# Altium integrated library Capacitors$.IntLib: 127 symbols
Pins are listed as number, name and electrical type; pins without a type are passive.

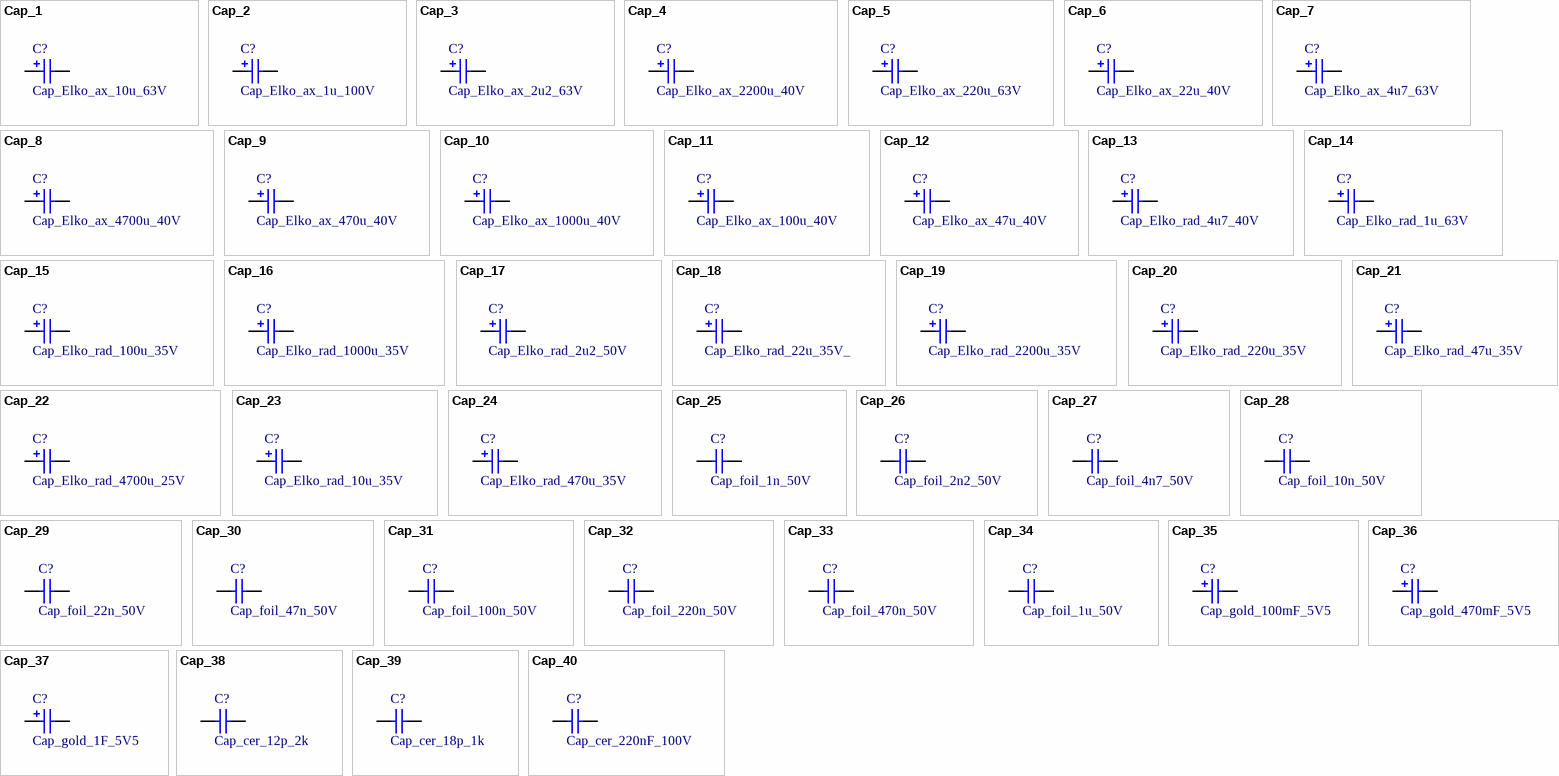
[diagram p0: symbols Cap_1 to Cap_40]

## Cap_1
designator C?, comment Cap_Elko_ax_10u_63V
RS_number: 324-5234; QR: 1; ax_rad: ax; Capacity: 10u; Voltage: 63V; UID: Cap_1; Name: Cap_Elko_ax_10u_63V; Name_Hyperlink: Al-Elko 10uF 63VDC 20% 85C axial; ComponentLink1URL: #NAME?; mounting: THT
footprint Cap_THT_Elko_ax_L11mm
pins: 1, 2
1 alternate drawing of the same symbol

## Cap_2
designator C?, comment Cap_Elko_ax_1u_100V
RS_number: 324-5313; QR: 1; ax_rad: ax; Capacity: 1u; Voltage: 100V; UID: Cap_2; Name: Cap_Elko_ax_1u_100V; Name_Hyperlink: Al-Elko 1uF 100VDC 20% 85C axial; ComponentLink1URL: #NAME?; mounting: THT
footprint Cap_THT_Elko_ax_L11mm
pins: 1, 2
1 alternate drawing of the same symbol

## Cap_3
designator C?, comment Cap_Elko_ax_2u2_63V
RS_number: 108-5440; QR: 1; ax_rad: ax; Capacity: 2u2; Voltage: 63V; UID: Cap_3; Name: Cap_Elko_ax_2u2_63V; Name_Hyperlink: Al-Elko 2,2uF 63VDC -10% +50% 85C axial; ComponentLink1URL: #NAME?; mounting: THT
footprint Cap_THT_Elko_ax_L11mm
pins: 1, 2
1 alternate drawing of the same symbol

## Cap_4
designator C?, comment Cap_Elko_ax_2200u_40V
RS_number: 108-4992; QR: 1; ax_rad: ax; Capacity: 2200u; Voltage: 40V; UID: Cap_4; Name: Cap_Elko_ax_2200u_40V; Name_Hyperlink: Al-Elko 2200uF 40VDC 20% 85C axial; ComponentLink1URL: #NAME?; mounting: THT
footprint Cap_THT_Elko_ax_L31mm
pins: 1, 2
1 alternate drawing of the same symbol

## Cap_5
designator C?, comment Cap_Elko_ax_220u_63V
RS_number: 324-5278; QR: 1; ax_rad: ax; Capacity: 220u; Voltage: 63V; UID: Cap_5; Name: Cap_Elko_ax_220u_63V; Name_Hyperlink: Al-Elko 220uF 63VDC 20% 85C axial; ComponentLink1URL: #NAME?; mounting: THT
footprint Cap_THT_Elko_ax_L31mm
pins: 1, 2
1 alternate drawing of the same symbol

## Cap_6
designator C?, comment Cap_Elko_ax_22u_40V
RS_number: 108-5333; QR: 1; ax_rad: ax; Capacity: 22u; Voltage: 40V; UID: Cap_6; Name: Cap_Elko_ax_22u_40V; Name_Hyperlink: Al-Elko 22uF 40VDC -10% +50% 85C axial; ComponentLink1URL: #NAME?; mounting: THT
footprint Cap_THT_Elko_ax_L11mm
pins: 1, 2
1 alternate drawing of the same symbol

## Cap_7
designator C?, comment Cap_Elko_ax_4u7_63V
RS_number: 108-5456; QR: 1; ax_rad: ax; Capacity: 4u7; Voltage: 63V; UID: Cap_7; Name: Cap_Elko_ax_4u7_63V; Name_Hyperlink: Al-Elko 4,7uF 63VDC -10% +50% 85C axial; ComponentLink1URL: #NAME?; mounting: THT
footprint Cap_THT_Elko_ax_L11mm
pins: 1, 2
1 alternate drawing of the same symbol

## Cap_8
designator C?, comment Cap_Elko_ax_4700u_40V
RS_number: 108-5002; QR: 1; ax_rad: ax; Capacity: 4700u; Voltage: 40V; UID: Cap_8; Name: Cap_Elko_ax_4700u_40V; Name_Hyperlink: Al-Elko 4700uF 40VDC 20% 85C axial; ComponentLink1URL: #NAME?; mounting: THT
footprint Cap_THT_Elko_ax_L39mm
pins: 1, 2
1 alternate drawing of the same symbol

## Cap_9
designator C?, comment Cap_Elko_ax_470u_40V
RS_number: 108-4970; QR: 1; ax_rad: ax; Capacity: 470u; Voltage: 40V; UID: Cap_9; Name: Cap_Elko_ax_470u_40V; Name_Hyperlink: Al-Elko 470uF 40VDC 20% 85C axial; ComponentLink1URL: #NAME?; mounting: THT
footprint Cap_THT_Elko_ax_L31mm
pins: 1, 2
1 alternate drawing of the same symbol

## Cap_10
designator C?, comment Cap_Elko_ax_1000u_40V
RS_number: 108-4986; QR: 1; ax_rad: ax; Capacity: 1000u; Voltage: 40V; UID: Cap_10; Name: Cap_Elko_ax_1000u_40V; Name_Hyperlink: Aluminium Elko 40VDC 1000µF; ComponentLink1URL: #NAME?; mounting: THT
footprint Cap_THT_Elko_ax_L31mm
pins: 1, 2
1 alternate drawing of the same symbol

## Cap_11
designator C?, comment Cap_Elko_ax_100u_40V
RS_number: 108-5383; QR: 1; ax_rad: ax; Capacity: 100u; Voltage: 40V; UID: Cap_11; Name: Cap_Elko_ax_100u_40V; Name_Hyperlink: Miniatur Elko 40V 85°C 100µF; ComponentLink1URL: #NAME?; mounting: THT
footprint Cap_THT_Elko_ax_L19mm
pins: 1, 2
1 alternate drawing of the same symbol

## Cap_12
designator C?, comment Cap_Elko_ax_47u_40V
RS_number: 108-5377; QR: 1; ax_rad: ax; Capacity: 47u; Voltage: 40V; UID: Cap_12; Name: Cap_Elko_ax_47u_40V; Name_Hyperlink: Miniatur Elko 40V 85°C 47µF; ComponentLink1URL: #NAME?; mounting: THT
footprint Cap_THT_Elko_ax_L19mm
pins: 1, 2
1 alternate drawing of the same symbol

## Cap_13
designator C?, comment Cap_Elko_rad_4u7_40V
RS_number: 547-2961; QR: 1; ax_rad: rad; Capacity: 4u7; Voltage: 35V; UID: Cap_13; Name: Cap_Elko_rad_4u7_40V; Name_Hyperlink: Electrolytkondensator 4,7µF 35V; ComponentLink1URL: #NAME?; mounting: THT
footprint Cap_THT_Elko_rad_D5mm
pins: 1, 2
1 alternate drawing of the same symbol

## Cap_14
designator C?, comment Cap_Elko_rad_1u_63V
RS_number: 547-2882; QR: 1; ax_rad: rad; Capacity: 1u; Voltage: 63V; UID: Cap_14; Name: Cap_Elko_rad_1u_63V; Name_Hyperlink: Elektrolytkondensator SRA 63V 1µF; ComponentLink1URL: #NAME?; mounting: THT
footprint Cap_THT_Elko_rad_D5mm
pins: 1, 2
1 alternate drawing of the same symbol

## Cap_15
designator C?, comment Cap_Elko_rad_100u_35V
RS_number: 228-6767; QR: 1; ax_rad: rad; Capacity: 100u; Voltage: 35V; UID: Cap_15; Name: Cap_Elko_rad_100u_35V; Name_Hyperlink: Elko 100µF 35VDC; ComponentLink1URL: #NAME?; mounting: THT
footprint Cap_THT_Elko_rad_D8mm
pins: 1, 2
1 alternate drawing of the same symbol

## Cap_16
designator C?, comment Cap_Elko_rad_1000u_35V
RS_number: 228-6818; QR: 1; ax_rad: rad; Capacity: 1000u; Voltage: 35V; UID: Cap_16; Name: Cap_Elko_rad_1000u_35V; Name_Hyperlink: Elko 1000µF 35VDC; ComponentLink1URL: #NAME?; mounting: THT
footprint Cap_THT_Elko_rad_D13mm
pins: 1, 2
1 alternate drawing of the same symbol

## Cap_17
designator C?, comment Cap_Elko_rad_2u2_50V
RS_number: 228-6852; QR: 1; ax_rad: rad; Capacity: 2u2; Voltage: 50V; UID: Cap_17; Name: Cap_Elko_rad_2u2_50V; Name_Hyperlink: Elko 2,2µF 50VDC; ComponentLink1URL: #NAME?; mounting: THT
footprint Cap_THT_Elko_rad_D5mm
pins: 1, 2
1 alternate drawing of the same symbol

## Cap_18
designator C?, comment Cap_Elko_rad_22u_35V_
RS_number: 228-6723; QR: 1; ax_rad: rad; Capacity: 22u; Voltage: 35V; UID: Cap_18; Name: Cap_Elko_rad_22u_35V_; Name_Hyperlink: Elko 22µF 35VDC; ComponentLink1URL: #NAME?; mounting: THT
footprint Cap_THT_Elko_rad_D6mm
pins: 1, 2
1 alternate drawing of the same symbol

## Cap_19
designator C?, comment Cap_Elko_rad_2200u_35V
RS_number: 228-6824; QR: 1; ax_rad: rad; Capacity: 2200u; Voltage: 35V; UID: Cap_19; Name: Cap_Elko_rad_2200u_35V; Name_Hyperlink: Elko 2200µF 35VDC; ComponentLink1URL: #NAME?; mounting: THT
footprint Cap_THT_Elko_rad_D16mm
pins: 1, 2
1 alternate drawing of the same symbol

## Cap_20
designator C?, comment Cap_Elko_rad_220u_35V
RS_number: 440-6632; QR: 1; ax_rad: rad; Capacity: 220u; Voltage: 35V; UID: Cap_20; Name: Cap_Elko_rad_220u_35V; Name_Hyperlink: Kondensator 220µF 35V; ComponentLink1URL: #NAME?; mounting: THT
footprint Cap_THT_Elko_rad_D8mm
pins: 1, 2
1 alternate drawing of the same symbol

## Cap_21
designator C?, comment Cap_Elko_rad_47u_35V
RS_number: 228-6751; QR: 1; ax_rad: rad; Capacity: 47u; Voltage: 35V; UID: Cap_21; Name: Cap_Elko_rad_47u_35V; Name_Hyperlink: Elko 47µF 35VDC; ComponentLink1URL: #NAME?; mounting: THT
footprint Cap_THT_Elko_rad_D6mm
pins: 1, 2
1 alternate drawing of the same symbol

## Cap_22
designator C?, comment Cap_Elko_rad_4700u_25V
RS_number: 208-7144; QR: 1; ax_rad: rad; Capacity: 4700u; Voltage: 25V; UID: Cap_22; Name: Cap_Elko_rad_4700u_25V; Name_Hyperlink: Elko Kondensator 4700µF 25V; ComponentLink1URL: #NAME?; mounting: THT
footprint Cap_THT_Elko_rad_D25mm
pins: 1, 2
1 alternate drawing of the same symbol

## Cap_23
designator C?, comment Cap_Elko_rad_10u_35V
RS_number: 547-2927; QR: 1; ax_rad: rad; Capacity: 10u; Voltage: 35V; UID: Cap_23; Name: Cap_Elko_rad_10u_35V; Name_Hyperlink: Elko Subminiatur 35Vdc 10uF; ComponentLink1URL: #NAME?; mounting: THT
footprint Cap_THT_Elko_rad_D6mm
pins: 1, 2
1 alternate drawing of the same symbol

## Cap_24
designator C?, comment Cap_Elko_rad_470u_35V
RS_number: 440-6452; QR: 1; ax_rad: rad; Capacity: 470u; Voltage: 35V; UID: Cap_24; Name: Cap_Elko_rad_470u_35V; Name_Hyperlink: Kondensator 470µF 35V; ComponentLink1URL: #NAME?; mounting: THT
footprint Cap_THT_Elko_rad_D10mm
pins: 1, 2
1 alternate drawing of the same symbol

## Cap_25
designator C?, comment Cap_foil_1n_50V
RS_number: 622-4117; QR: 1; Capacity: 1n; Voltage: 50V; UID: Cap_25; Name: Cap_foil_1n_50V; Name_Hyperlink: Film Kondensator 50VDC 0,001µF 5%; ComponentLink1URL: #NAME?; mounting: THT
footprint Cap_THT_cer_508mm
pins: 1, 2

## Cap_26
designator C?, comment Cap_foil_2n2_50V
RS_number: 622-4101; QR: 1; Capacity: 2n2; Voltage: 50V; UID: Cap_26; Name: Cap_foil_2n2_50V; Name_Hyperlink: Film Kondensator 50VDC 0,0022µF 5%; ComponentLink1URL: #NAME?; mounting: THT
footprint Cap_THT_cer_508mm
pins: 1, 2

## Cap_27
designator C?, comment Cap_foil_4n7_50V
RS_number: 622-4123; QR: 1; Capacity: 4n7; Voltage: 50V; UID: Cap_27; Name: Cap_foil_4n7_50V; Name_Hyperlink: Film Kondensator 50VDC 0,0047µF 5%; ComponentLink1URL: #NAME?; mounting: THT
footprint Cap_THT_cer_508mm
pins: 1, 2

## Cap_28
designator C?, comment Cap_foil_10n_50V
RS_number: 622-4151; QR: 1; Capacity: 10n; Voltage: 50V; UID: Cap_28; Name: Cap_foil_10n_50V; Name_Hyperlink: Film Kondensator 50VDC 0,01µF 5%; ComponentLink1URL: #NAME?; mounting: THT
footprint Cap_THT_cer_254mm
pins: 1, 2

## Cap_29
designator C?, comment Cap_foil_22n_50V
RS_number: 622-4167; QR: 1; Capacity: 22n; Voltage: 50V; UID: Cap_29; Name: Cap_foil_22n_50V; Name_Hyperlink: Film Kondensator 50VDC 0,022µF 5%; ComponentLink1URL: #NAME?; mounting: THT
footprint Cap_THT_cer_508mm
pins: 1, 2

## Cap_30
designator C?, comment Cap_foil_47n_50V
RS_number: 622-4195; QR: 1; Capacity: 47n; Voltage: 50V; UID: Cap_30; Name: Cap_foil_47n_50V; Name_Hyperlink: Film Kondensator 50VDC 0,047ÁF; ComponentLink1URL: #NAME?; mounting: THT
footprint Cap_THT_cer_508mm
pins: 1, 2

## Cap_31
designator C?, comment Cap_foil_100n_50V
RS_number: 622-4202; QR: 1; Capacity: 100n; Voltage: 50V; UID: Cap_31; Name: Cap_foil_100n_50V; Name_Hyperlink: Film Kondensator 50VDC 0,1ÁF; ComponentLink1URL: #NAME?; mounting: THT
footprint Cap_THT_cer_508mm
pins: 1, 2

## Cap_32
designator C?, comment Cap_foil_220n_50V
RS_number: 622-4218; QR: 1; Capacity: 220n; Voltage: 50V; UID: Cap_32; Name: Cap_foil_220n_50V; Name_Hyperlink: Film Kondensator 50VDC 0,22ÁF; ComponentLink1URL: #NAME?; mounting: THT
footprint Cap_THT_cer_508mm
pins: 1, 2

## Cap_33
designator C?, comment Cap_foil_470n_50V
RS_number: 622-4224; QR: 1; Capacity: 470n; Voltage: 50V; UID: Cap_33; Name: Cap_foil_470n_50V; Name_Hyperlink: Film Kondensator 50VDC 0,47ÁF; ComponentLink1URL: #NAME?; mounting: THT
footprint Cap_THT_cer_508mm
pins: 1, 2

## Cap_34
designator C?, comment Cap_foil_1u_50V
RS_number: 622-4252; QR: 1; Capacity: 1u; Voltage: 50V; UID: Cap_34; Name: Cap_foil_1u_50V; Name_Hyperlink: Film Kondensator 50VDC 1ÁF 5%; ComponentLink1URL: #NAME?; mounting: THT
footprint Cap_THT_cer_508mm
pins: 1, 2

## Cap_35
designator C?, comment Cap_gold_100mF_5V5
RS_number: 377-366P; QR: 0; Capacity: 100m; Voltage: 5.5V; UID: Cap_35; Name: Cap_gold_100mF_5V5; Name_Hyperlink: Kondensator 0,1FGoldcap; ComponentLink1URL: #NAME?; mounting: THT
pins: 1, 2
1 alternate drawing of the same symbol

## Cap_36
designator C?, comment Cap_gold_470mF_5V5
RS_number: 339-6815; QR: 0; Capacity: 470m; Voltage: 5.5V; UID: Cap_36; Name: Cap_gold_470mF_5V5; Name_Hyperlink: Kondensator 0,47F Goldcap; ComponentLink1URL: #NAME?; mounting: THT
pins: 1, 2
1 alternate drawing of the same symbol

## Cap_37
designator C?, comment Cap_gold_1F_5V5
RS_number: 107-690; QR: 0; Capacity: 1F; Voltage: 5.5V; UID: Cap_37; Name: Cap_gold_1F_5V5; Name_Hyperlink: Kondensator 1F Goldcap; ComponentLink1URL: #NAME?; mounting: THT
footprint Cap_THT_Goldcap_rad_1F_D21mm
pins: 1, 2
1 alternate drawing of the same symbol

## Cap_38
designator C?, comment Cap_cer_12p_2k
RS_number: 2509257744; QR: 1; Capacity: 12p; Voltage: 2k; UID: Cap_38; Name: Cap_cer_12p_2k; Name_Hyperlink: CAPACITOR, CERAMIC, HIGH VOLTAGE, 3K VOLT, U2J, 20%, 12PF; ComponentLink1URL: #NAME?; mounting: THT
footprint Cap_THT_cer_762mm
pins: 1, 2

## Cap_39
designator C?, comment Cap_cer_18p_1k
RS_number: 2509259087; QR: 1; Capacity: 18p; Voltage: 1k; UID: Cap_39; Name: Cap_cer_18p_1k; Name_Hyperlink: CAPACITOR, CERAMIC, PRECISION, DISC, RADIAL 1000V, C0G, SIZE E, 18PF; ComponentLink1URL: #NAME?; mounting: THT
footprint Cap_THT_cer_762mm
pins: 1, 2

## Cap_40
designator C?, comment Cap_cer_220nF_100V
RS_number: 538-1584P; QR: 1; Capacity: 220n; Voltage: 100V; UID: Cap_40; Name: Cap_cer_220nF_100V; Name_Hyperlink: Keramik Kondensator 100V 0,22µF; ComponentLink1URL: #NAME?; mounting: THT
footprint Cap_THT_cer_508mm
pins: 1, 2

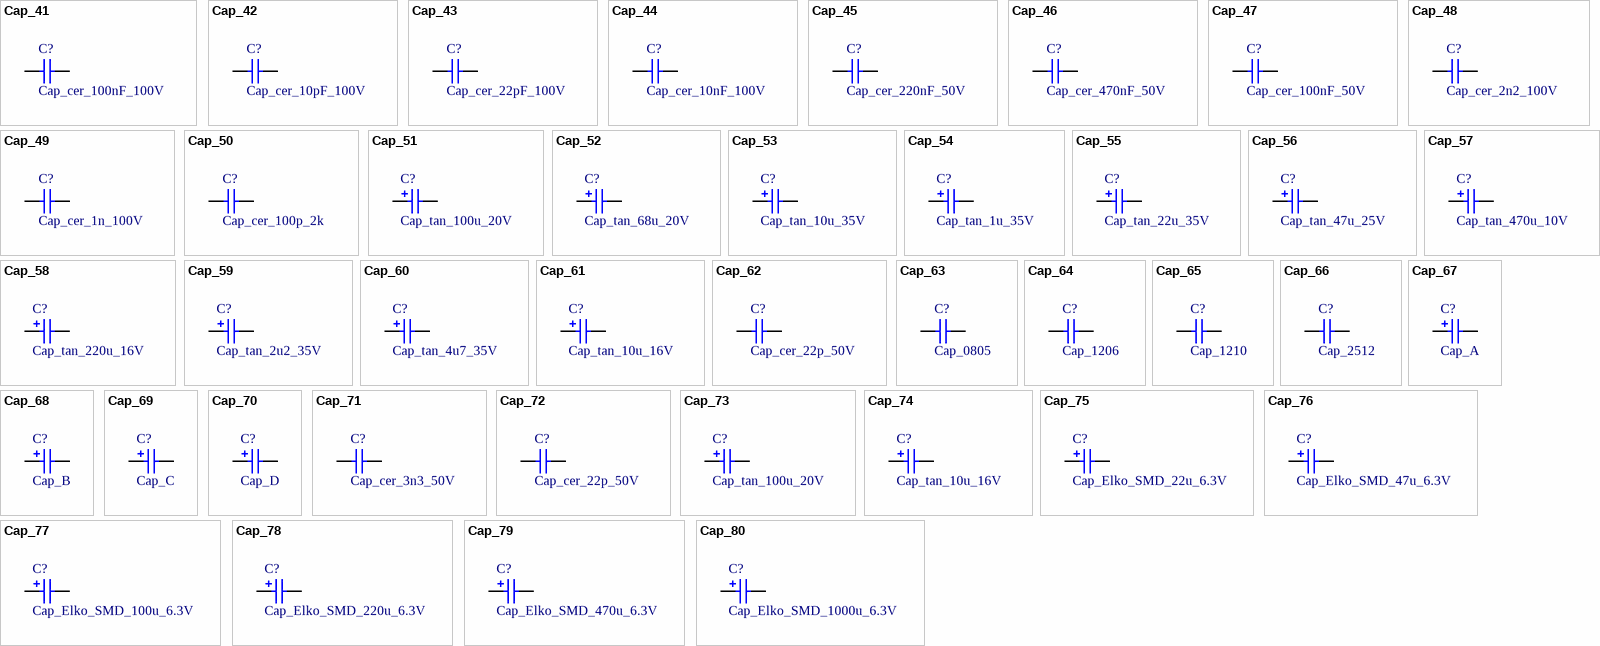
[diagram p1: symbols Cap_41 to Cap_80]

## Cap_41
designator C?, comment Cap_cer_100nF_100V
RS_number: 538-1427P; QR: 1; Capacity: 100n; Voltage: 100V; UID: Cap_41; Name: Cap_cer_100nF_100V; Name_Hyperlink: Keramik Kondensator X7R 100V 0,1µF; ComponentLink1URL: #NAME?; mounting: THT
footprint Cap_THT_cer_508mm
pins: 1, 2

## Cap_42
designator C?, comment Cap_cer_10pF_100V
RS_number: 211-4612; QR: 1; Capacity: 10p; Voltage: 100V; UID: Cap_42; Name: Cap_cer_10pF_100V; Name_Hyperlink: Keramikkondesator 10pF 100V; ComponentLink1URL: #NAME?; mounting: THT
footprint Cap_THT_cer_508mm
pins: 1, 2

## Cap_43
designator C?, comment Cap_cer_22pF_100V
RS_number: 211-4886; QR: 1; Capacity: 22p; Voltage: 100V; UID: Cap_43; Name: Cap_cer_22pF_100V; Name_Hyperlink: Keramikkondesator 22pF 100V; ComponentLink1URL: #NAME?; mounting: THT
footprint Cap_THT_cer_508mm
pins: 1, 2

## Cap_44
designator C?, comment Cap_cer_10nF_100V
RS_number: 538-1180P; QR: 1; Capacity: 10n; Voltage: 100V; UID: Cap_44; Name: Cap_cer_10nF_100V; Name_Hyperlink: Kondensator 2,5mm 100V X7R 10nF 10%; ComponentLink1URL: #NAME?; mounting: THT
footprint Cap_THT_cer_508mm
pins: 1, 2

## Cap_45
designator C?, comment Cap_cer_220nF_50V
RS_number: 653-0074; QR: 1; Capacity: 220n; Voltage: 50V; UID: Cap_45; Name: Cap_cer_220nF_50V; Name_Hyperlink: Kondensator 220nF 50V Z5U; ComponentLink1URL: #NAME?; mounting: THT
footprint Cap_THT_cer_508mm
pins: 1, 2

## Cap_46
designator C?, comment Cap_cer_470nF_50V
RS_number: 653-0147P; QR: 1; Capacity: 470n; Voltage: 50V; UID: Cap_46; Name: Cap_cer_470nF_50V; Name_Hyperlink: Kondensator 50V 470nF; ComponentLink1URL: #NAME?; mounting: THT
footprint Cap_THT_cer_508mm
pins: 1, 2

## Cap_47
designator C?, comment Cap_cer_100nF_50V
RS_number: 721-5240; QR: 1; Capacity: 100n; Voltage: 50V; UID: Cap_47; Name: Cap_cer_100nF_50V; Name_Hyperlink: Keramik Kondensator radial 100nF 50V; ComponentLink1URL: #NAME?; mounting: THT
footprint Cap_THT_cer_508mm
pins: 1, 2

## Cap_48
designator C?, comment Cap_cer_2n2_100V
RS_number: 537-3808; QR: 1; Capacity: 2n2; Voltage: 100V; UID: Cap_48; Name: Cap_cer_2n2_100V; Name_Hyperlink: Keramik Kondensator 100V 2,2nF; ComponentLink1URL: #NAME?; mounting: THT
footprint Cap_THT_cer_508mm
pins: 1, 2

## Cap_49
designator C?, comment Cap_cer_1n_100V
RS_number: 537-3779; QR: 1; Capacity: 1n; Voltage: 100V; UID: Cap_49; Name: Cap_cer_1n_100V; Name_Hyperlink: Keramik Kondensator 100V 1nF; ComponentLink1URL: #NAME?; mounting: THT
footprint Cap_THT_cer_508mm
pins: 1, 2

## Cap_50
designator C?, comment Cap_cer_100p_2k
RS_number: 683-2137; QR: 1; Capacity: 100p; Voltage: 2k; UID: Cap_50; Name: Cap_cer_100p_2k; Name_Hyperlink: Kondensator 2kV 100pF; ComponentLink1URL: #NAME?; mounting: THT
footprint Cap_THT_cer_762mm
pins: 1, 2

## Cap_51
designator C?, comment Cap_tan_100u_20V
RS_number: 684-3923P; QR: 1; Capacity: 100u; Voltage: 20V; UID: Cap_51; Name: Cap_tan_100u_20V; Name_Hyperlink: Capacitor Tantalum SMT 293D 20V 100uF; ComponentLink1URL: #NAME?; mounting: SMD
footprint C
pins: 1, 2
1 alternate drawing of the same symbol

## Cap_52
designator C?, comment Cap_tan_68u_20V
RS_number: 684-4203; QR: 0; Capacity: 68u; Voltage: 20V; UID: Cap_52; Name: Cap_tan_68u_20V; Name_Hyperlink: Capacitor Tantalum SMT 293D 20V 68uF; ComponentLink1URL: #NAME?; mounting: SMD
footprint C
pins: 1, 2
1 alternate drawing of the same symbol

## Cap_53
designator C?, comment Cap_tan_10u_35V
RS_number: 684-3901P; QR: 1; Capacity: 10u; Voltage: 35V; UID: Cap_53; Name: Cap_tan_10u_35V; Name_Hyperlink: Capacitor Tantalum SMT 293D 35V 10uF; ComponentLink1URL: #NAME?; mounting: SMD
footprint C
pins: 1, 2
1 alternate drawing of the same symbol

## Cap_54
designator C?, comment Cap_tan_1u_35V
RS_number: 684-3878P; QR: 1; Capacity: 1u; Voltage: 35V; UID: Cap_54; Name: Cap_tan_1u_35V; Name_Hyperlink: Capacitor Tantalum SMT 293D 35V 1uF; ComponentLink1URL: #NAME?; mounting: SMD
footprint B
pins: 1, 2
1 alternate drawing of the same symbol

## Cap_55
designator C?, comment Cap_tan_22u_35V
RS_number: 684-4538P; QR: 1; Capacity: 22u; Voltage: 35V; UID: Cap_55; Name: Cap_tan_22u_35V; Name_Hyperlink: Capacitor Tantalum SMT 593D 35V 22uF; ComponentLink1URL: #NAME?; mounting: SMD
footprint C
pins: 1, 2
1 alternate drawing of the same symbol

## Cap_56
designator C?, comment Cap_tan_47u_25V
RS_number: 684-5284P; QR: 1; Capacity: 47u; Voltage: 25v; UID: Cap_56; Name: Cap_tan_47u_25V; Name_Hyperlink: Capacitor Tantalum SMT TR3D 25V 47uF; ComponentLink1URL: #NAME?; mounting: SMD
footprint C
pins: 1, 2
1 alternate drawing of the same symbol

## Cap_57
designator C?, comment Cap_tan_470u_10V
RS_number: 684-5335P; QR: 1; Capacity: 470u; Voltage: 10V; UID: Cap_57; Name: Cap_tan_470u_10V; Name_Hyperlink: Capacitor Tantalum SMT TR3E 10V 470uF; ComponentLink1URL: #NAME?; mounting: SMD
footprint C
pins: 1, 2
1 alternate drawing of the same symbol

## Cap_58
designator C?, comment Cap_tan_220u_16V
RS_number: 684-5329P; QR: 1; Capacity: 220u; Voltage: 16V; UID: Cap_58; Name: Cap_tan_220u_16V; Name_Hyperlink: Capacitor Tantalum SMT TR3E 16V 220uF; ComponentLink1URL: #NAME?; mounting: SMD
footprint C
pins: 1, 2
1 alternate drawing of the same symbol

## Cap_59
designator C?, comment Cap_tan_2u2_35V
RS_number: 684-4008P; QR: 1; Capacity: 2u2; Voltage: 35V; UID: Cap_59; Name: Cap_tan_2u2_35V; Name_Hyperlink: Kondensator Tantal SMD 293D 35V 2,2uF; ComponentLink1URL: #NAME?; mounting: SMD
footprint B
pins: 1, 2
1 alternate drawing of the same symbol

## Cap_60
designator C?, comment Cap_tan_4u7_35V
RS_number: 684-5168P; QR: 1; Capacity: 4u7; Voltage: 35V; UID: Cap_60; Name: Cap_tan_4u7_35V; Name_Hyperlink: Kondensator Tantal SMD TR3C 35V 4,7uF; ComponentLink1URL: #NAME?; mounting: SMD
footprint C
pins: 1, 2
1 alternate drawing of the same symbol

## Cap_61
designator C?, comment Cap_tan_10u_16V
RS_number: 684-0632; QR: 0; Capacity: 10u; Voltage: 16V; UID: Cap_61; Name: Cap_tan_10u_16V; Name_Hyperlink: Kondensator Tantal SMD 293D 35V 2,2uF; ComponentLink1URL: #NAME?; mounting: SMD
footprint B
pins: 1, 2
1 alternate drawing of the same symbol

## Cap_62
designator C?, comment Cap_cer_22p_50V
RS_number: 264-4258; QR: 0; Capacity: 22p; Voltage: 50V; UID: Cap_62; Name: Cap_cer_22p_50V; Name_Hyperlink: Kondensator Tantal SMD 293D 50V 22pF; ComponentLink1URL: #NAME?; mounting: SMD
footprint _0805
pins: 1, 2

## Cap_63
designator C?, comment Cap_0805
Capacity: ?F; Voltage: ?V; UID: Cap_63; Name: Cap_0805; ComponentLink1URL: #NAME?; mounting: SMD
footprint _0805
pins: 1, 2

## Cap_64
designator C?, comment Cap_1206
Capacity: ?F; Voltage: ?V; UID: Cap_64; Name: Cap_1206; ComponentLink1URL: #NAME?; mounting: SMD
footprint _1206
pins: 1, 2

## Cap_65
designator C?, comment Cap_1210
Capacity: ?F; Voltage: ?V; UID: Cap_65; Name: Cap_1210; ComponentLink1URL: #NAME?; mounting: SMD
footprint _1210
pins: 1, 2

## Cap_66
designator C?, comment Cap_2512
Capacity: ?F; Voltage: ?V; UID: Cap_66; Name: Cap_2512; ComponentLink1URL: #NAME?; mounting: SMD
footprint _2512
pins: 1, 2

## Cap_67
designator C?, comment Cap_A
Capacity: ?F; Voltage: ?V; UID: Cap_67; Name: Cap_A; ComponentLink1URL: #NAME?; mounting: SMD
footprint A
pins: 1, 2
1 alternate drawing of the same symbol

## Cap_68
designator C?, comment Cap_B
Capacity: ?F; Voltage: ?V; UID: Cap_68; Name: Cap_B; ComponentLink1URL: #NAME?; mounting: SMD
footprint B
pins: 1, 2
1 alternate drawing of the same symbol

## Cap_69
designator C?, comment Cap_C
Capacity: ?F; Voltage: ?V; UID: Cap_69; Name: Cap_C; ComponentLink1URL: #NAME?; mounting: SMD
footprint C
pins: 1, 2
1 alternate drawing of the same symbol

## Cap_70
designator C?, comment Cap_D
Capacity: ?F; Voltage: ?V; UID: Cap_70; Name: Cap_D; mounting: SMD
footprint D
pins: 1, 2
1 alternate drawing of the same symbol

## Cap_71
designator C?, comment Cap_cer_3n3_50V
RS_number: 741-4510P; QR: 0; Capacity: 3n3; Voltage: 50V; UID: Cap_71; Name: Cap_cer_3n3_50V; Name_Hyperlink: 0805 C0G ceramic capacitor 50V 3.3nF; ComponentLink1URL: #NAME?; mounting: SMD
footprint _0805
pins: 1, 2

## Cap_72
designator C?, comment Cap_cer_22p_50V
RS_number: 264-4258P; QR: 0; Capacity: 22p; Voltage: 50V; UID: Cap_72; Name: Cap_cer_22p_50V; Name_Hyperlink: Keramik Kondensator COG 50V 22pF; ComponentLink1URL: #NAME?; mounting: SMD
footprint _0805
pins: 1, 2

## Cap_73
designator C?, comment Cap_tan_100u_20V
RS_number: 684-3923P; QR: 0; Capacity: 100u; Voltage: 20V; UID: Cap_73; Name: Cap_tan_100u_20V; Name_Hyperlink: Kondensator Tantal SMD 293D 20V 100uF; ComponentLink1URL: #NAME?; mounting: SMD
footprint D
pins: 1, 2
1 alternate drawing of the same symbol

## Cap_74
designator C?, comment Cap_tan_10u_16V
RS_number: 648-0632P; QR: 0; Capacity: 10u; Voltage: 10V; UID: Cap_74; Name: Cap_tan_10u_16V; Name_Hyperlink: T491 SMD Tantal Kondensator 16V 10uF; ComponentLink1URL: #NAME?; mounting: SMD
footprint B
pins: 1, 2
1 alternate drawing of the same symbol

## Cap_75
designator C?, comment Cap_Elko_SMD_22u_6.3V
RS_number: 708-3295; Panasonic_number: EEEFK0J220R; QR: 0; ax_rad: rad; Capacity: 22u; Voltage: 6.3V; Size_code: B; UID: Cap_75; Name: Cap_Elko_SMD_22u_6.3V; Name_Hyperlink: http://at.rs-online.com/web/p/aluminium-elektrolytkondensatoren/7083295/?searchTerm=708-3295&relevancy-data=636F3D3126696E3D4931384E525353746F636B4E756D6265724D504E266C753D656E266D6D3D6D61746368616C6C26706D3D5E5C647B337D5B5C732D2F255C2E2C5D5C647B332C347D2; ComponentLink1URL: #NAME?; mounting: SMD
footprint B_ELKO
pins: 1, 2
1 alternate drawing of the same symbol

## Cap_76
designator C?, comment Cap_Elko_SMD_47u_6.3V
RS_number: 708-3308; Panasonic_number: EEEFK0J470R; QR: 0; ax_rad: rad; Capacity: 47u; Voltage: 6.3V; Size_code: C; UID: Cap_76; Name: Cap_Elko_SMD_47u_6.3V; Name_Hyperlink: http://at.rs-online.com/web/p/aluminium-elektrolytkondensatoren/7083308/?searchTerm=708-3308&relevancy-data=636F3D3126696E3D4931384E525353746F636B4E756D6265724D504E266C753D656E266D6D3D6D61746368616C6C26706D3D5E5C647B337D5B5C732D2F255C2E2C5D5C647B332C347D2; ComponentLink1URL: #NAME?; mounting: SMD
footprint C_ELKO
pins: 1, 2
1 alternate drawing of the same symbol

## Cap_77
designator C?, comment Cap_Elko_SMD_100u_6.3V
RS_number: 708-3291; Panasonic_number: EEEFK0J101P; QR: 0; ax_rad: rad; Capacity: 100u; Voltage: 6.3V; Size_code: D; UID: Cap_77; Name: Cap_Elko_SMD_100u_6.3V; Name_Hyperlink: http://at.rs-online.com/web/p/aluminium-elektrolytkondensatoren/7083291/?searchTerm=708-3291&relevancy-data=636F3D3126696E3D4931384E525353746F636B4E756D6265724D504E266C753D656E266D6D3D6D61746368616C6C26706D3D5E5C647B337D5B5C732D2F255C2E2C5D5C647B332C347D2; ComponentLink1URL: #NAME?; mounting: SMD
footprint D_ELKO
pins: 1, 2
1 alternate drawing of the same symbol

## Cap_78
designator C?, comment Cap_Elko_SMD_220u_6.3V
RS_number: 708-3302; Panasonic_number: EEEFK0J221P; QR: 0; ax_rad: rad; Capacity: 220u; Voltage: 6.3V; Size_code: D; UID: Cap_78; Name: Cap_Elko_SMD_220u_6.3V; Name_Hyperlink: http://at.rs-online.com/web/p/aluminium-elektrolytkondensatoren/7083302/?searchTerm=708-3302&relevancy-data=636F3D3126696E3D4931384E525353746F636B4E756D6265724D504E266C753D656E266D6D3D6D61746368616C6C26706D3D5E5C647B337D5B5C732D2F255C2E2C5D5C647B332C347D2; ComponentLink1URL: #NAME?; mounting: SMD
footprint D_ELKO
pins: 1, 2
1 alternate drawing of the same symbol

## Cap_79
designator C?, comment Cap_Elko_SMD_470u_6.3V
RS_number: 708-3314; Panasonic_number: EEEFK0J471P; QR: 0; ax_rad: rad; Capacity: 470u; Voltage: 6.3V; Size_code: F; UID: Cap_79; Name: Cap_Elko_SMD_470u_6.3V; Name_Hyperlink: http://at.rs-online.com/web/p/aluminium-elektrolytkondensatoren/7083314/?searchTerm=708-3314&relevancy-data=636F3D3126696E3D4931384E525353746F636B4E756D6265724D504E266C753D656E266D6D3D6D61746368616C6C26706D3D5E5C647B337D5B5C732D2F255C2E2C5D5C647B332C347D2; ComponentLink1URL: #NAME?; mounting: SMD
footprint F_ELKO
pins: 1, 2
1 alternate drawing of the same symbol

## Cap_80
designator C?, comment Cap_Elko_SMD_1000u_6.3V
RS_number: 708-3318; Panasonic_number: EEEFK0J102P; QR: 0; ax_rad: rad; Capacity: 1000u; Voltage: 6.3V; Size_code: F; UID: Cap_80; Name: Cap_Elko_SMD_1000u_6.3V; Name_Hyperlink: http://at.rs-online.com/web/p/aluminium-elektrolytkondensatoren/7083318/?searchTerm=708-3318&relevancy-data=636F3D3126696E3D4931384E525353746F636B4E756D6265724D504E266C753D656E266D6D3D6D61746368616C6C26706D3D5E5C647B337D5B5C732D2F255C2E2C5D5C647B332C347D2; ComponentLink1URL: #NAME?; mounting: SMD
footprint F_ELKO
pins: 1, 2
1 alternate drawing of the same symbol

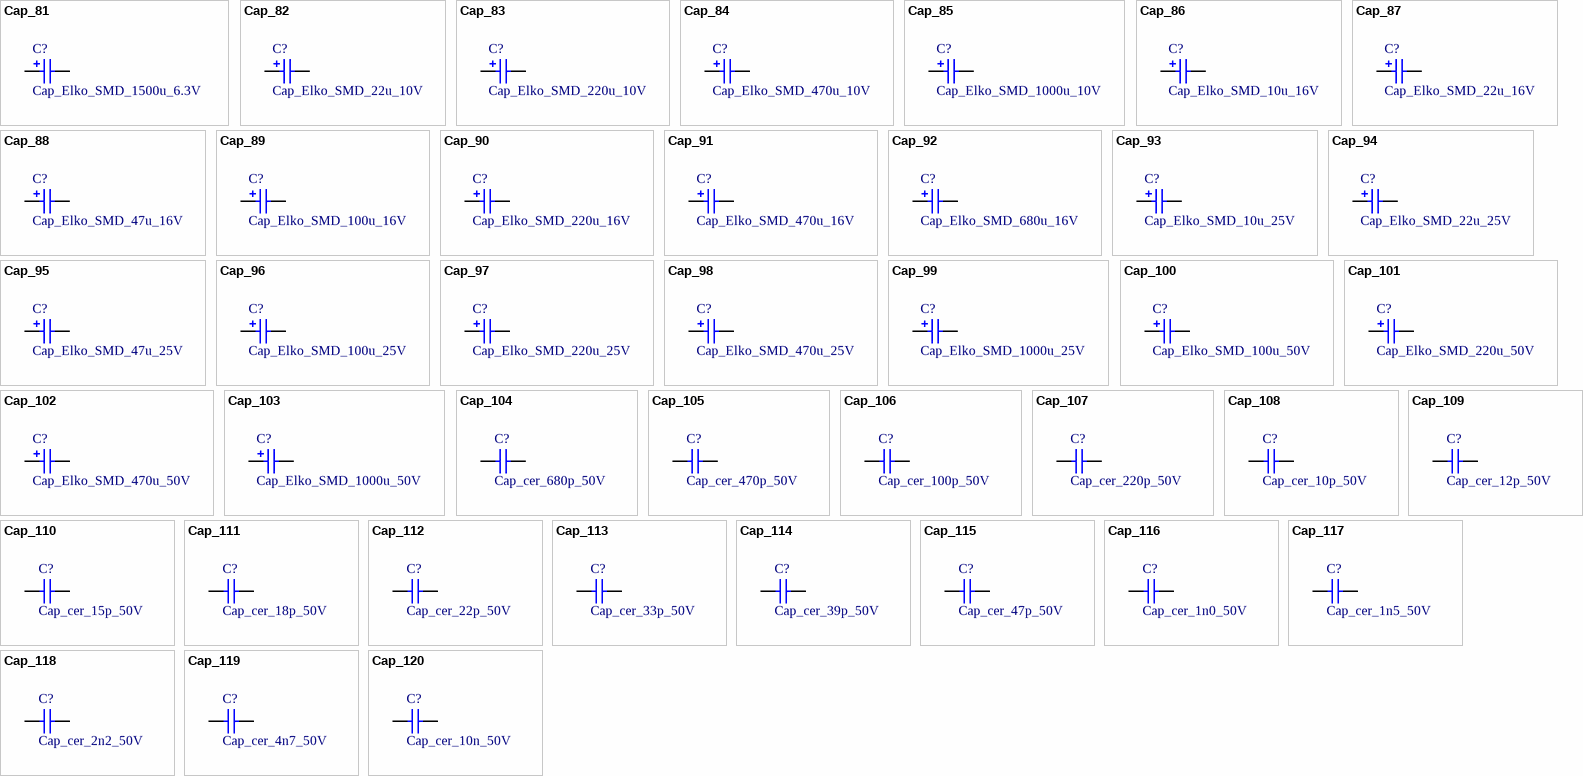
[diagram p2: symbols Cap_81 to Cap_120]

## Cap_81
designator C?, comment Cap_Elko_SMD_1500u_6.3V
RS_number: 708-3327; Panasonic_number: EEEFK0J152P; QR: 0; ax_rad: rad; Capacity: 1500u; Voltage: 6.3V; Size_code: G; UID: Cap_81; Name: Cap_Elko_SMD_1500u_6.3V; Name_Hyperlink: http://at.rs-online.com/web/p/aluminium-elektrolytkondensatoren/7083327/?searchTerm=708-3327&relevancy-data=636F3D3126696E3D4931384E525353746F636B4E756D6265724D504E266C753D656E266D6D3D6D61746368616C6C26706D3D5E5C647B337D5B5C732D2F255C2E2C5D5C647B332C347D2; ComponentLink1URL: #NAME?; mounting: SMD
footprint G_ELKO
pins: 1, 2
1 alternate drawing of the same symbol

## Cap_82
designator C?, comment Cap_Elko_SMD_22u_10V
RS_number: 708-3333; Panasonic_number: EEEFK1A220R; QR: 0; ax_rad: rad; Capacity: 22u; Voltage: 10V; Size_code: B; UID: Cap_82; Name: Cap_Elko_SMD_22u_10V; Name_Hyperlink: http://at.rs-online.com/web/p/aluminium-elektrolytkondensatoren/7083333/?searchTerm=708-3333&relevancy-data=636F3D3126696E3D4931384E525353746F636B4E756D6265724D504E266C753D656E266D6D3D6D61746368616C6C26706D3D5E5C647B337D5B5C732D2F255C2E2C5D5C647B332C347D2; ComponentLink1URL: #NAME?; mounting: SMD
footprint B_ELKO
pins: 1, 2
1 alternate drawing of the same symbol

## Cap_83
designator C?, comment Cap_Elko_SMD_220u_10V
RS_number: 708-3346; Panasonic_number: EEEFK1A221P; QR: 0; ax_rad: rad; Capacity: 220u; Voltage: 10V; Size_code: E; UID: Cap_83; Name: Cap_Elko_SMD_220u_10V; Name_Hyperlink: http://at.rs-online.com/web/p/aluminium-elektrolytkondensatoren/7083346/?searchTerm=708-3346&relevancy-data=636F3D3126696E3D4931384E525353746F636B4E756D6265724D504E266C753D656E266D6D3D6D61746368616C6C26706D3D5E5C647B337D5B5C732D2F255C2E2C5D5C647B332C347D2; ComponentLink1URL: #NAME?; mounting: SMD
footprint E_ELKO
pins: 1, 2
1 alternate drawing of the same symbol

## Cap_84
designator C?, comment Cap_Elko_SMD_470u_10V
RS_number: 708-3358; Panasonic_number: EEEFK1A471P; QR: 0; ax_rad: rad; Capacity: 470u; Voltage: 10V; Size_code: F; UID: Cap_84; Name: Cap_Elko_SMD_470u_10V; Name_Hyperlink: http://at.rs-online.com/web/p/aluminium-elektrolytkondensatoren/7083358/?searchTerm=708-3358&relevancy-data=636F3D3126696E3D4931384E525353746F636B4E756D6265724D504E266C753D656E266D6D3D6D61746368616C6C26706D3D5E5C647B337D5B5C732D2F255C2E2C5D5C647B332C347D2; ComponentLink1URL: #NAME?; mounting: SMD
footprint F_ELKO
pins: 1, 2
1 alternate drawing of the same symbol

## Cap_85
designator C?, comment Cap_Elko_SMD_1000u_10V
RS_number: 708-3361; Panasonic_number: EEEFK1A102P; QR: 0; ax_rad: rad; Capacity: 1000u; Voltage: 10V; Size_code: G; UID: Cap_85; Name: Cap_Elko_SMD_1000u_10V; Name_Hyperlink: http://at.rs-online.com/web/p/aluminium-elektrolytkondensatoren/7083361/?searchTerm=708-3361&relevancy-data=636F3D3126696E3D4931384E525353746F636B4E756D6265724D504E266C753D656E266D6D3D6D61746368616C6C26706D3D5E5C647B337D5B5C732D2F255C2E2C5D5C647B332C347D2; ComponentLink1URL: #NAME?; mounting: SMD
footprint G_ELKO
pins: 1, 2
1 alternate drawing of the same symbol

## Cap_86
designator C?, comment Cap_Elko_SMD_10u_16V
RS_number: 727-1000; Panasonic_number: EEEFK1C100R; QR: 0; ax_rad: rad; Capacity: 10u; Voltage: 16V; Size_code: B; UID: Cap_86; Name: Cap_Elko_SMD_10u_16V; Name_Hyperlink: http://at.rs-online.com/web/p/aluminium-elektrolytkondensatoren/7271000/?searchTerm=727-1000&relevancy-data=636F3D3126696E3D4931384E525353746F636B4E756D6265724D504E266C753D656E266D6D3D6D61746368616C6C26706D3D5E5C647B337D5B5C732D2F255C2E2C5D5C647B332C347D2; ComponentLink1URL: #NAME?; mounting: SMD
footprint B_ELKO
pins: 1, 2
1 alternate drawing of the same symbol

## Cap_87
designator C?, comment Cap_Elko_SMD_22u_16V
RS_number: 708-3370; Panasonic_number: EEEFK1C220R; QR: 0; ax_rad: rad; Capacity: 22u; Voltage: 16V; Size_code: C; UID: Cap_87; Name: Cap_Elko_SMD_22u_16V; Name_Hyperlink: http://at.rs-online.com/web/p/aluminium-elektrolytkondensatoren/7083370/?searchTerm=708-3370&relevancy-data=636F3D3126696E3D4931384E525353746F636B4E756D6265724D504E266C753D656E266D6D3D6D61746368616C6C26706D3D5E5C647B337D5B5C732D2F255C2E2C5D5C647B332C347D2; ComponentLink1URL: #NAME?; mounting: SMD
footprint C_ELKO
pins: 1, 2
1 alternate drawing of the same symbol

## Cap_88
designator C?, comment Cap_Elko_SMD_47u_16V
RS_number: 708-3374; Panasonic_number: EEEFK1C470P; QR: 0; ax_rad: rad; Capacity: 47u; Voltage: 16V; Size_code: D; UID: Cap_88; Name: Cap_Elko_SMD_47u_16V; Name_Hyperlink: http://at.rs-online.com/web/p/aluminium-elektrolytkondensatoren/7083374/?searchTerm=708-3374&relevancy-data=636F3D3126696E3D4931384E525353746F636B4E756D6265724D504E266C753D656E266D6D3D6D61746368616C6C26706D3D5E5C647B337D5B5C732D2F255C2E2C5D5C647B332C347D2; ComponentLink1URL: #NAME?; mounting: SMD
footprint D_ELKO
pins: 1, 2
1 alternate drawing of the same symbol

## Cap_89
designator C?, comment Cap_Elko_SMD_100u_16V
RS_number: 537-0433; Panasonic_number: EEEFK1C101P; QR: 0; ax_rad: rad; Capacity: 100u; Voltage: 16V; Size_code: D; UID: Cap_89; Name: Cap_Elko_SMD_100u_16V; Name_Hyperlink: http://at.rs-online.com/web/p/aluminium-elektrolytkondensatoren/5370433/?searchTerm=537-0433&relevancy-data=636F3D3126696E3D4931384E525353746F636B4E756D6265724D504E266C753D656E266D6D3D6D61746368616C6C26706D3D5E5C647B337D5B5C732D2F255C2E2C5D5C647B332C347D2; ComponentLink1URL: #NAME?; mounting: SMD
footprint D_ELKO
pins: 1, 2
1 alternate drawing of the same symbol

## Cap_90
designator C?, comment Cap_Elko_SMD_220u_16V
RS_number: 537-0455; Panasonic_number: EEEFK1C221P; QR: 0; ax_rad: rad; Capacity: 220u; Voltage: 16V; Size_code: E; UID: Cap_90; Name: Cap_Elko_SMD_220u_16V; Name_Hyperlink: http://at.rs-online.com/web/p/aluminium-elektrolytkondensatoren/5370455/?searchTerm=537-0455&relevancy-data=636F3D3126696E3D4931384E525353746F636B4E756D6265724D504E266C753D656E266D6D3D6D61746368616C6C26706D3D5E5C647B337D5B5C732D2F255C2E2C5D5C647B332C347D2; ComponentLink1URL: #NAME?; mounting: SMD
footprint E_ELKO
pins: 1, 2
1 alternate drawing of the same symbol

## Cap_91
designator C?, comment Cap_Elko_SMD_470u_16V
RS_number: 537-0477; Panasonic_number: EEEFK1C471P; QR: 0; ax_rad: rad; Capacity: 470u; Voltage: 16V; Size_code: F; UID: Cap_91; Name: Cap_Elko_SMD_470u_16V; Name_Hyperlink: http://at.rs-online.com/web/p/aluminium-elektrolytkondensatoren/5370477/?searchTerm=537-0477&relevancy-data=636F3D3126696E3D4931384E525353746F636B4E756D6265724D504E266C753D656E266D6D3D6D61746368616C6C26706D3D5E5C647B337D5B5C732D2F255C2E2C5D5C647B332C347D2; ComponentLink1URL: #NAME?; mounting: SMD
footprint F_ELKO
pins: 1, 2
1 alternate drawing of the same symbol

## Cap_92
designator C?, comment Cap_Elko_SMD_680u_16V
RS_number: 708-3392; Panasonic_number: EEEFK1C681P; QR: 0; ax_rad: rad; Capacity: 680u; Voltage: 16V; Size_code: G; UID: Cap_92; Name: Cap_Elko_SMD_680u_16V; Name_Hyperlink: http://at.rs-online.com/web/p/aluminium-elektrolytkondensatoren/7083392/?searchTerm=708-3392&relevancy-data=636F3D3126696E3D4931384E525353746F636B4E756D6265724D504E266C753D656E266D6D3D6D61746368616C6C26706D3D5E5C647B337D5B5C732D2F255C2E2C5D5C647B332C347D2; ComponentLink1URL: #NAME?; mounting: SMD
footprint G_ELKO
pins: 1, 2
1 alternate drawing of the same symbol

## Cap_93
designator C?, comment Cap_Elko_SMD_10u_25V
RS_number: 537-0483; Panasonic_number: EEEFK1E100R; QR: 0; ax_rad: rad; Capacity: 10u; Voltage: 25V; Size_code: B; UID: Cap_93; Name: Cap_Elko_SMD_10u_25V; Name_Hyperlink: http://at.rs-online.com/web/p/aluminium-elektrolytkondensatoren/5370483/?searchTerm=537-0483&relevancy-data=636F3D3126696E3D4931384E525353746F636B4E756D6265724D504E266C753D656E266D6D3D6D61746368616C6C26706D3D5E5C647B337D5B5C732D2F255C2E2C5D5C647B332C347D2; ComponentLink1URL: #NAME?; mounting: SMD
footprint B_ELKO
pins: 1, 2
1 alternate drawing of the same symbol

## Cap_94
designator C?, comment Cap_Elko_SMD_22u_25V
RS_number: 708-3403; Panasonic_number: EEEFK1E220R; QR: 0; ax_rad: rad; Capacity: 22u; Voltage: 25V; Size_code: C; UID: Cap_94; Name: Cap_Elko_SMD_22u_25V; Name_Hyperlink: http://at.rs-online.com/web/p/aluminium-elektrolytkondensatoren/7083403/?searchTerm=708-3403&relevancy-data=636F3D3126696E3D4931384E525353746F636B4E756D6265724D504E266C753D656E266D6D3D6D61746368616C6C26706D3D5E5C647B337D5B5C732D2F255C2E2C5D5C647B332C347D2; ComponentLink1URL: #NAME?; mounting: SMD
footprint C_ELKO
pins: 1, 2
1 alternate drawing of the same symbol

## Cap_95
designator C?, comment Cap_Elko_SMD_47u_25V
RS_number: 537-0512; Panasonic_number: EEEFK1E470P; QR: 0; ax_rad: rad; Capacity: 47u; Voltage: 25V; Size_code: D; UID: Cap_95; Name: Cap_Elko_SMD_47u_25V; Name_Hyperlink: http://at.rs-online.com/web/p/aluminium-elektrolytkondensatoren/5370512/?searchTerm=537-0512&relevancy-data=636F3D3126696E3D4931384E525353746F636B4E756D6265724D504E266C753D656E266D6D3D6D61746368616C6C26706D3D5E5C647B337D5B5C732D2F255C2E2C5D5C647B332C347D2; ComponentLink1URL: #NAME?; mounting: SMD
footprint D_ELKO
pins: 1, 2
1 alternate drawing of the same symbol

## Cap_96
designator C?, comment Cap_Elko_SMD_100u_25V
RS_number: 537-0499; Panasonic_number: EEEFK1E101P; QR: 0; ax_rad: rad; Capacity: 100u; Voltage: 25V; Size_code: E; UID: Cap_96; Name: Cap_Elko_SMD_100u_25V; Name_Hyperlink: http://at.rs-online.com/web/p/aluminium-elektrolytkondensatoren/5370499/?searchTerm=537-0499&relevancy-data=636F3D3126696E3D4931384E525353746F636B4E756D6265724D504E266C753D656E266D6D3D6D61746368616C6C26706D3D5E5C647B337D5B5C732D2F255C2E2C5D5C647B332C347D2; ComponentLink1URL: #NAME?; mounting: SMD
footprint E_ELKO
pins: 1, 2
1 alternate drawing of the same symbol

## Cap_97
designator C?, comment Cap_Elko_SMD_220u_25V
RS_number: 537-0506; Panasonic_number: EEEFK1E221P; QR: 0; ax_rad: rad; Capacity: 220u; Voltage: 25V; Size_code: F; UID: Cap_97; Name: Cap_Elko_SMD_220u_25V; Name_Hyperlink: http://at.rs-online.com/web/p/aluminium-elektrolytkondensatoren/5370506/?searchTerm=537-0506&relevancy-data=636F3D3126696E3D4931384E525353746F636B4E756D6265724D504E266C753D656E266D6D3D6D61746368616C6C26706D3D5E5C647B337D5B5C732D2F255C2E2C5D5C647B332C347D2; ComponentLink1URL: #NAME?; mounting: SMD
footprint F_ELKO
pins: 1, 2
1 alternate drawing of the same symbol

## Cap_98
designator C?, comment Cap_Elko_SMD_470u_25V
RS_number: 537-0528; Panasonic_number: EEEFK1E471P; QR: 0; ax_rad: rad; Capacity: 470u; Voltage: 25V; Size_code: G; UID: Cap_98; Name: Cap_Elko_SMD_470u_25V; Name_Hyperlink: http://at.rs-online.com/web/p/aluminium-elektrolytkondensatoren/5370528/?searchTerm=537-0528&relevancy-data=636F3D3126696E3D4931384E525353746F636B4E756D6265724D504E266C753D656E266D6D3D6D61746368616C6C26706D3D5E5C647B337D5B5C732D2F255C2E2C5D5C647B332C347D2; ComponentLink1URL: #NAME?; mounting: SMD
footprint G_ELKO
pins: 1, 2
1 alternate drawing of the same symbol

## Cap_99
designator C?, comment Cap_Elko_SMD_1000u_25V
RS_number: 708-3434; Panasonic_number: EEVFK1E102Q; QR: 0; ax_rad: rad; Capacity: 1000u; Voltage: 25V; Size_code: H13; UID: Cap_99; Name: Cap_Elko_SMD_1000u_25V; Name_Hyperlink: http://at.rs-online.com/web/p/aluminium-elektrolytkondensatoren/7083434/?searchTerm=708-3434&relevancy-data=636F3D3126696E3D4931384E525353746F636B4E756D6265724D504E266C753D656E266D6D3D6D61746368616C6C26706D3D5E5C647B337D5B5C732D2F255C2E2C5D5C647B332C347D2; ComponentLink1URL: #NAME?; mounting: SMD
footprint H13_ELKO
pins: 1, 2
1 alternate drawing of the same symbol

## Cap_100
designator C?, comment Cap_Elko_SMD_100u_50V
RS_number: 537-0540; Panasonic_number: EEEFK1H101P; QR: 0; ax_rad: rad; Capacity: 100u; Voltage: 50V; Size_code: F; UID: Cap_100; Name: Cap_Elko_SMD_100u_50V; Name_Hyperlink: http://at.rs-online.com/web/p/aluminium-elektrolytkondensatoren/5370540/?searchTerm=537-0540&relevancy-data=636F3D3126696E3D4931384E525353746F636B4E756D6265724D504E266C753D656E266D6D3D6D61746368616C6C26706D3D5E5C647B337D5B5C732D2F255C2E2C5D5C647B332C347D2; ComponentLink1URL: #NAME?; mounting: SMD
footprint F_ELKO
pins: 1, 2
1 alternate drawing of the same symbol

## Cap_101
designator C?, comment Cap_Elko_SMD_220u_50V
RS_number: 537-0584; Panasonic_number: EEEFK1H221P; QR: 0; ax_rad: rad; Capacity: 220u; Voltage: 50V; Size_code: G; UID: Cap_101; Name: Cap_Elko_SMD_220u_50V; Name_Hyperlink: http://at.rs-online.com/web/p/aluminium-elektrolytkondensatoren/5370584/?searchTerm=537-0584&relevancy-data=636F3D3126696E3D4931384E525353746F636B4E756D6265724D504E266C753D656E266D6D3D6D61746368616C6C26706D3D5E5C647B337D5B5C732D2F255C2E2C5D5C647B332C347D2; ComponentLink1URL: #NAME?; mounting: SMD
footprint G_ELKO_Tyrolight
pins: 1, 2
1 alternate drawing of the same symbol

## Cap_102
designator C?, comment Cap_Elko_SMD_470u_50V
RS_number: 708-3566; Panasonic_number: EEVFK1H471M; QR: 0; ax_rad: rad; Capacity: 470u; Voltage: 50V; Size_code: J16; UID: Cap_102; Name: Cap_Elko_SMD_470u_50V; Name_Hyperlink: http://at.rs-online.com/web/p/aluminium-elektrolytkondensatoren/7083566/?searchTerm=708-3566&relevancy-data=636F3D3126696E3D4931384E525353746F636B4E756D6265724D504E266C753D656E266D6D3D6D61746368616C6C26706D3D5E5C647B337D5B5C732D2F255C2E2C5D5C647B332C347D2; ComponentLink1URL: #NAME?; mounting: SMD
footprint J16_ELKO
pins: 1, 2
1 alternate drawing of the same symbol

## Cap_103
designator C?, comment Cap_Elko_SMD_1000u_50V
RS_number: 537-0556; Panasonic_number: EEVFK1H102M; QR: 0; ax_rad: rad; Capacity: 1000u; Voltage: 50V; Size_code: J16; UID: Cap_103; Name: Cap_Elko_SMD_1000u_50V; Name_Hyperlink: http://at.rs-online.com/web/p/aluminium-elektrolytkondensatoren/5370556/?searchTerm=537-0556&relevancy-data=636F3D3126696E3D4931384E525353746F636B4E756D6265724D504E266C753D656E266D6D3D6D61746368616C6C26706D3D5E5C647B337D5B5C732D2F255C2E2C5D5C647B332C347D2; ComponentLink1URL: #NAME?; mounting: SMD
footprint J16_ELKO
pins: 1, 2
1 alternate drawing of the same symbol

## Cap_104
designator C?, comment Cap_cer_680p_50V
RS_number: 723-6423; QR: 0; Capacity: 680p; Voltage: 50V; UID: Cap_104; Name: Cap_cer_680p_50V; Name_Hyperlink: Keramikkondensator SMT 680 pF 50 VDC; ComponentLink1URL: #NAME?; mounting: SMD
footprint _0805
pins: 1, 2

## Cap_105
designator C?, comment Cap_cer_470p_50V
RS_number: 723-6164; QR: 0; Capacity: 470p; Voltage: 50V; UID: Cap_105; Name: Cap_cer_470p_50V; Name_Hyperlink: Keramikkondensator SMT 470 pF 50 VDC; ComponentLink1URL: #NAME?; mounting: SMD
footprint _0805
pins: 1, 2

## Cap_106
designator C?, comment Cap_cer_100p_50V
RS_number: 723-6199; QR: 0; Capacity: 100p; Voltage: 50V; UID: Cap_106; Name: Cap_cer_100p_50V; Name_Hyperlink: Keramikkondensator SMT 100 pF 50 VDC; ComponentLink1URL: #NAME?; mounting: SMD
footprint _0805
pins: 1, 2

## Cap_107
designator C?, comment Cap_cer_220p_50V
RS_number: 723-6247; QR: 0; Capacity: 220p; Voltage: 50V; UID: Cap_107; Name: Cap_cer_220p_50V; Name_Hyperlink: Keramikkondensator SMT 220 pF 50 VDC; ComponentLink1URL: #NAME?; mounting: SMD
footprint _0805
pins: 1, 2

## Cap_108
designator C?, comment Cap_cer_10p_50V
RS_number: 723-6186; QR: 0; Capacity: 10p; Voltage: 50V; UID: Cap_108; Name: Cap_cer_10p_50V; Name_Hyperlink: Keramikkondensator SMT 10 pF 50 VDC; ComponentLink1URL: #NAME?; mounting: SMD
footprint _0805
pins: 1, 2

## Cap_109
designator C?, comment Cap_cer_12p_50V
RS_number: 723-6206; QR: 0; Capacity: 12p; Voltage: 50V; UID: Cap_109; Name: Cap_cer_12p_50V; Name_Hyperlink: Keramikkondensator SMT 12 pF 50 VDC; ComponentLink1URL: #NAME?; mounting: SMD
footprint _0805
pins: 1, 2

## Cap_110
designator C?, comment Cap_cer_15p_50V
RS_number: 723-6212; QR: 0; Capacity: 15p; Voltage: 50V; UID: Cap_110; Name: Cap_cer_15p_50V; Name_Hyperlink: Keramikkondensator SMT 15 pF 50 VDC; ComponentLink1URL: #NAME?; mounting: SMD
footprint _0805
pins: 1, 2

## Cap_111
designator C?, comment Cap_cer_18p_50V
RS_number: 723-6228; QR: 0; Capacity: 18p; Voltage: 50V; UID: Cap_111; Name: Cap_cer_18p_50V; Name_Hyperlink: Keramikkondensator SMT 18 pF 50 VDC; ComponentLink1URL: #NAME?; mounting: SMD
footprint _0805
pins: 1, 2

## Cap_112
designator C?, comment Cap_cer_22p_50V
RS_number: 723-6243; QR: 0; Capacity: 22p; Voltage: 50V; UID: Cap_112; Name: Cap_cer_22p_50V; Name_Hyperlink: Keramikkondensator SMT 22 pF 50 VDC; ComponentLink1URL: #NAME?; mounting: SMD
footprint _0805
pins: 1, 2

## Cap_113
designator C?, comment Cap_cer_33p_50V
RS_number: 723-6278; QR: 0; Capacity: 33p; Voltage: 50V; UID: Cap_113; Name: Cap_cer_33p_50V; Name_Hyperlink: Keramikkondensator SMT 33 pF 50 VDC; ComponentLink1URL: #NAME?; mounting: SMD
footprint _0805
pins: 1, 2

## Cap_114
designator C?, comment Cap_cer_39p_50V
RS_number: 723-6275; QR: 0; Capacity: 39p; Voltage: 50V; UID: Cap_114; Name: Cap_cer_39p_50V; Name_Hyperlink: Keramikkondensator SMT 39 pF 50 VDC; ComponentLink1URL: #NAME?; mounting: SMD
footprint _0805
pins: 1, 2

## Cap_115
designator C?, comment Cap_cer_47p_50V
RS_number: 723-6281; QR: 0; Capacity: 47p; Voltage: 50V; UID: Cap_115; Name: Cap_cer_47p_50V; Name_Hyperlink: Keramikkondensator SMT 47 pF 50 VDC; ComponentLink1URL: #NAME?; mounting: SMD
footprint _0805
pins: 1, 2

## Cap_116
designator C?, comment Cap_cer_1n0_50V
QR: 0; Capacity: 1n0; Voltage: 50V; UID: Cap_116; Name: Cap_cer_1n0_50V; ComponentLink1URL: #NAME?; mounting: SMD
footprint _0805
pins: 1, 2

## Cap_117
designator C?, comment Cap_cer_1n5_50V
QR: 0; Capacity: 1n5; Voltage: 50V; UID: Cap_117; Name: Cap_cer_1n5_50V; ComponentLink1URL: #NAME?; mounting: SMD
footprint _0805
pins: 1, 2

## Cap_118
designator C?, comment Cap_cer_2n2_50V
QR: 0; Capacity: 2n2; Voltage: 50V; UID: Cap_118; Name: Cap_cer_2n2_50V; ComponentLink1URL: #NAME?; mounting: SMD
footprint _0805
pins: 1, 2

## Cap_119
designator C?, comment Cap_cer_4n7_50V
QR: 0; Capacity: 4n7; Voltage: 50V; UID: Cap_119; Name: Cap_cer_4n7_50V; ComponentLink1URL: #NAME?; mounting: SMD
footprint _0805
pins: 1, 2

## Cap_120
designator C?, comment Cap_cer_10n_50V
QR: 0; Capacity: 10n; Voltage: 50V; UID: Cap_120; Name: Cap_cer_10n_50V; ComponentLink1URL: #NAME?; mounting: SMD
footprint _0805
pins: 1, 2

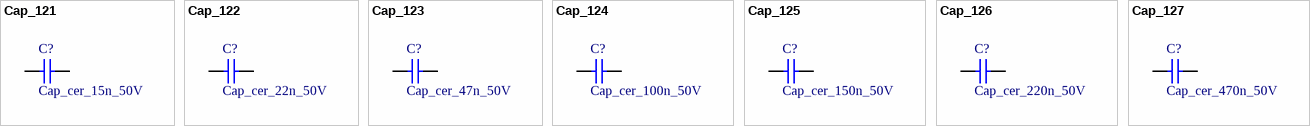
[diagram p3: symbols Cap_121 to Cap_127]

## Cap_121
designator C?, comment Cap_cer_15n_50V
QR: 0; Capacity: 15n; Voltage: 50V; UID: Cap_121; Name: Cap_cer_15n_50V; ComponentLink1URL: #NAME?; mounting: SMD
footprint _0805
pins: 1, 2

## Cap_122
designator C?, comment Cap_cer_22n_50V
QR: 0; Capacity: 22n; Voltage: 50V; UID: Cap_122; Name: Cap_cer_22n_50V; ComponentLink1URL: #NAME?; mounting: SMD
footprint _0805
pins: 1, 2

## Cap_123
designator C?, comment Cap_cer_47n_50V
QR: 0; Capacity: 47n; Voltage: 50V; UID: Cap_123; Name: Cap_cer_47n_50V; ComponentLink1URL: #NAME?; mounting: SMD
footprint _0805
pins: 1, 2

## Cap_124
designator C?, comment Cap_cer_100n_50V
QR: 0; Capacity: 100n; Voltage: 50V; UID: Cap_124; Name: Cap_cer_100n_50V; ComponentLink1URL: #NAME?; mounting: SMD
footprint _0805
pins: 1, 2

## Cap_125
designator C?, comment Cap_cer_150n_50V
QR: 0; Capacity: 150n; Voltage: 50V; UID: Cap_125; Name: Cap_cer_150n_50V; ComponentLink1URL: #NAME?; mounting: SMD
footprint _0805
pins: 1, 2

## Cap_126
designator C?, comment Cap_cer_220n_50V
QR: 0; Capacity: 220n; Voltage: 50V; UID: Cap_126; Name: Cap_cer_220n_50V; ComponentLink1URL: #NAME?; mounting: SMD
footprint _0805
pins: 1, 2

## Cap_127
designator C?, comment Cap_cer_470n_50V
QR: 0; Capacity: 470n; Voltage: 50V; UID: Cap_127; Name: Cap_cer_470n_50V; ComponentLink1URL: #NAME?; mounting: SMD
footprint _0805
pins: 1, 2